# Altium schematic symbol library Graphical Shematic Symbol.SchLib: 46 symbols
Pins are listed as number, name and electrical type; pins without a type are passive.

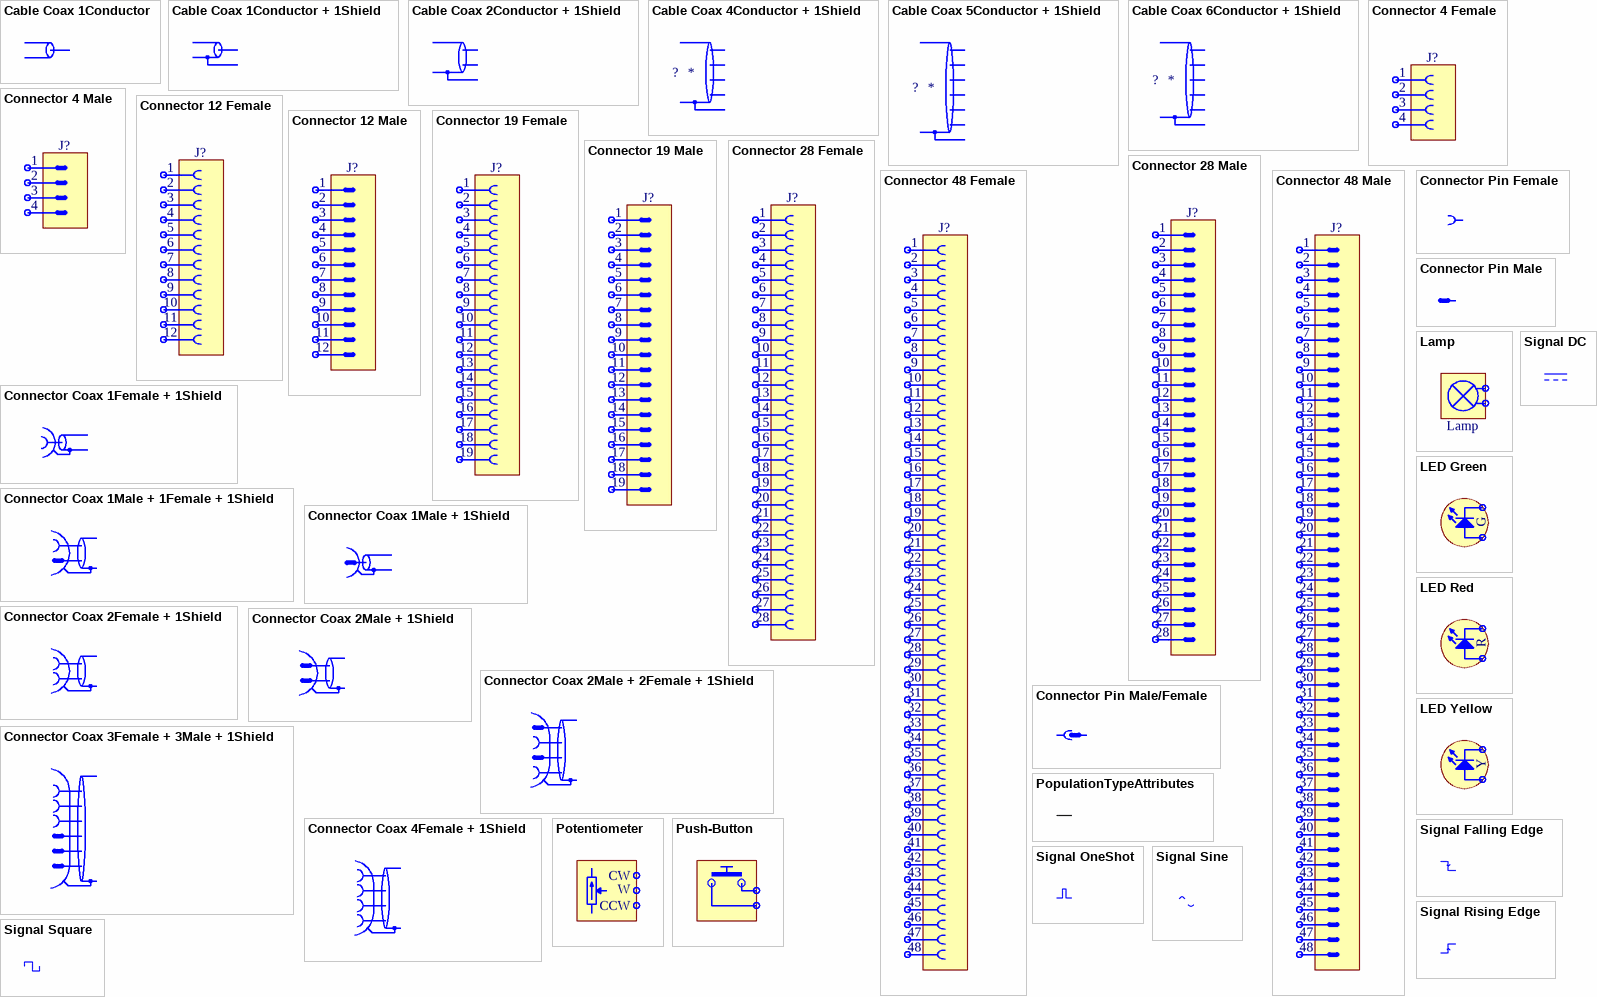
[diagram p0: symbols Cable Coax 1Conductor to Signal Square]

## Cable Coax 1Conductor
designator ?  (value not drawn)  (graphical)
Cable Coax 1Conductor

## Cable Coax 1Conductor + 1Shield
designator ?  (value not drawn)  (graphical)
Cable Coax 1Conductor + 1Shield

## Cable Coax 2Conductor + 1Shield
designator ?  (value not drawn)  (graphical)
Cable Coax 2Conductor + 1Shield

## Cable Coax 4Conductor + 1Shield
designator ?  (graphical)
Cable Coax 4Conductor + 1Shield

## Cable Coax 5Conductor + 1Shield
designator ?  (graphical)
Cable Coax 5Conductor + 1Shield

## Cable Coax 6Conductor + 1Shield
designator ?  (graphical)
Cable Coax 6Conductor + 1Shield

## Connector 4 Female
designator J?  (graphical)
Connector 4 Female
1 alternate drawing of the same symbol

## Connector 4 Male
designator J?  (graphical)
Connector 4 Male
1 alternate drawing of the same symbol

## Connector 12 Female
designator J?  (graphical)
Connector 12 Female
1 alternate drawing of the same symbol

## Connector 12 Male
designator J?
Connector 12 Male
1 alternate drawing of the same symbol

## Connector 19 Female
designator J?  (graphical)
Connector 19 Female
1 alternate drawing of the same symbol

## Connector 19 Male
designator J?  (graphical)
Connector 19 Male
1 alternate drawing of the same symbol

## Connector 28 Female
designator J?  (graphical)
Connector 28 Female
1 alternate drawing of the same symbol

## Connector 28 Male
designator J?  (graphical)
Connector 28 Male
1 alternate drawing of the same symbol

## Connector 48 Female
designator J?  (graphical)
Connector 48 Female
1 alternate drawing of the same symbol
text: 29; 30; 31; 32; 33; 34; 35; 36; 37; 38; 39; 40; 41; 42; 43; 44; 45; 46; 47; 48

## Connector 48 Male
designator J?  (graphical)
Connector 48 Male
1 alternate drawing of the same symbol
text: 29; 30; 31; 32; 33; 34; 35; 36; 37; 38; 39; 40; 41; 42; 43; 44; 45; 46; 47; 48

## Connector Coax 1Female + 1Shield
designator ?  (value not drawn)  (graphical)
Connector Coax 1Female + 1Shield

## Connector Coax 1Male + 1Female + 1Shield
designator ?  (value not drawn)  (graphical)
Connector Coax 1Male + 1Female + 1Shield

## Connector Coax 1Male + 1Shield
designator ?  (value not drawn)  (graphical)
Coaxial Connecteur 1 Conductor + 1 Shield

## Connector Coax 2Female + 1Shield
designator ?  (value not drawn)  (graphical)
Connector Coax 2Female + 1Shield

## Connector Coax 2Male + 1Shield
designator ?  (value not drawn)  (graphical)
Connector Coax 2Male + 1Shield

## Connector Coax 2Male + 2Female + 1Shield
designator ?  (value not drawn)  (graphical)
Connector Coax 2Male + 2Female + 1Shield

## Connector Coax 3Female + 3Male + 1Shield
designator ?  (value not drawn)  (graphical)
Connector Coax 3Female + 3Male + 1Shield

## Connector Coax 4Female + 1Shield
designator ?  (value not drawn)  (graphical)
Connector Coax 4Female + 1Shield

## Connector Pin Female
designator ?  (value not drawn)  (graphical)
Connector Pin Female

## Connector Pin Male
designator ?  (value not drawn)  (graphical)
Connector Pin Male

## Connector Pin Male/Female
designator ?  (value not drawn)  (graphical)
Connector Pin Male/Female

## Lamp
designator Lamp  (value not drawn)  (graphical)
Lamp

## LED Green
designator ?  (value not drawn)  (graphical)
LED Green
text: G

## LED Red
designator ?  (value not drawn)  (graphical)
LED Red
text: R

## LED Yellow
designator ?  (value not drawn)  (graphical)
LED Yellow
text: Y

## PopulationTypeAttributes
designator ?  (value not drawn)  (mechanical)
List of all parameters that are used to generate BOM; Part Number: PopulationTypeAttributes; PressFit: *; Bonding: *; Case: *; Manufacturer1 Part Number: *; Manufacturer1 Example: *; HelpURL: *; Tolerance: *; Voltage: *; Power: *; TC: *; Manufacturer: *; Manufacturer Part Number: *; Pins: *; Library Name: *; Status: *; SMD: *; Mounted: *; Socket: *; Footprint: *; Value: *; Device: *; Database Table Name: *; Component Type: *; Part Description: *; Sense: *; Sense Comment: *; Status Comment: *

## Potentiometer
designator ?  (value not drawn)  (graphical)
Trimming Potentiometer
text: CW; W; CCW

## Push-Button
designator ?  (value not drawn)  (graphical)
Push-Button

## Signal DC
designator ?  (value not drawn)  (graphical)
Direct Current

## Signal Falling Edge
designator ?  (value not drawn)  (graphical)
Falling Edge

## Signal OneShot
designator ?  (value not drawn)  (graphical)
OneShot Signal

## Signal Rising Edge
designator ?  (value not drawn)  (graphical)
Rising Edge

## Signal Sine
designator ?  (value not drawn)  (graphical)
Sine Signal

## Signal Square
designator ?  (value not drawn)  (graphical)
Square Signal

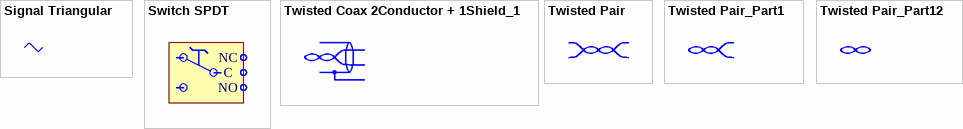
[diagram p1: symbols Signal Triangular to Twisted Pair_Part12]

## Signal Triangular
designator ?  (value not drawn)  (graphical)
Square Signal

## Switch SPDT
designator ?  (value not drawn)  (graphical)
Switch SPDT
text: NC; C; NO

## Twisted Coax 2Conductor + 1Shield_1
designator ?  (value not drawn)  (graphical)
Cable Coax 2Conductor + 1Shield

## Twisted Pair
designator ?  (value not drawn)  (graphical)
Twisted Pair

## Twisted Pair_Part1
designator ?  (value not drawn)  (graphical)
Twisted Pair

## Twisted Pair_Part12
designator ?  (value not drawn)  (graphical)
Twisted Pair